# Altium schematic symbol library nmos.SchLib: 1 symbol
Pins are listed as number, name and electrical type; pins without a type are passive.

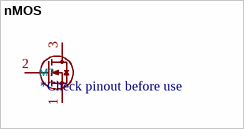
[diagram p0: symbol nMOS]

## nMOS
designator M?, comment *Check pinout before use
ki_keywords: MOSFET N-channel; ki_description: N-Channel Power-MOSFET
footprint TO-92
pins: 1 S, 2 G, 3 D